# Altium footprint library Inrush_Current_Limiter_Pcb.PcbLib: 1 footprints
Each footprint in its own frame and in the unit in brackets; x right, y up, seen from the top. Pads: shape width x height; smd on the part's side, far side on the other; paste and mask are expansions set on the pad; w line width, h text height; cw(c..) or ccw(c..) is an arc to the next point about the centre after c.
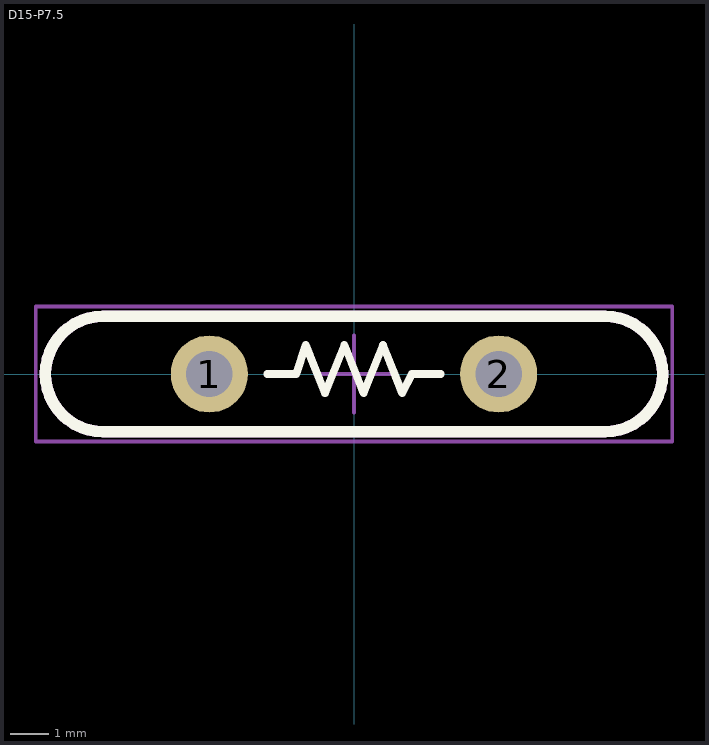
[diagram p0: the footprint, top view; thin cyan lines are the x and y axes]

## D15-P7.5 [mm]
pads (2):
  round 2 hole 1.2: 1(-3.75,0) 2(3.75,0)
Top Overlay:
  lines w0.2: -2.25,0 -1.75,0 -1.5,0 -1.25,0.75 -0.75,-0.5 -0.25,0.75 0.25,-0.5 0.75,0.75 1.25,-0.5 1.5,0 2.25,0
  lines w0.3: -8,0 ccw(c-6.5,0) -6.5,-1.5 6.5,-1.5 ccw(c6.5,0) 8,0 ccw(c6.5,0) 6.5,1.5 -6.5,1.5 ccw(c-6.5,0) -8,0
Mechanical 13:
  lines w0.3: -8,0 ccw(c-6.5,0) -6.5,-1.5 6.5,-1.5 ccw(c6.5,0) 8,0 ccw(c6.5,0) 6.5,1.5 -6.5,1.5 ccw(c-6.5,0) -8,0
  text ".Designator" at -2.5,-0.468 h1.5
Mechanical 15:
  lines w0.1: -1,0 1,0 ; 0,-1 0,1 ; -8.25,-1.75 8.25,-1.75 8.25,1.75 -8.25,1.75 -8.25,-1.75
3D body "D15.5-P7.5.step": height 18.51, standoff -2.99, extent -7.75,-2.1 7.75,2.1